# EAGLE library part AS-ITM-00156 (library tinycircuits)
IC CURRENT MONITOR 1% SOT23-8
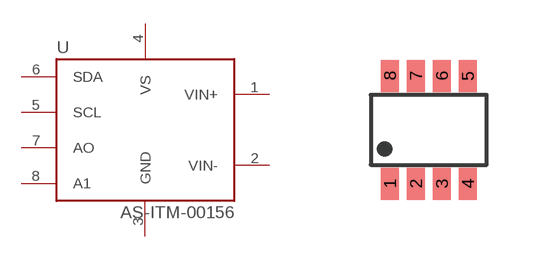
[diagram p70: symbol with the pads of R-PDSO-G8; footprint R-PDSO-G8]

Designator prefix U

## AS-ITM-00156 (PARTNO: AS-ITM-00156; VALUE: INA219AIDCNT)  [R-PDSO-G8]
1  VIN+
2  VIN-
3  GND
4  VS
5  SCL
6  SDA
7  AO
8  A1

## Footprint R-PDSO-G8 (pad centres in mm)
smd 0.45 x 0.8: 1 -0.92,-1.27; 2 -0.27,-1.27; 3 0.38,-1.27; 4 1.03,-1.27; 5 1.03,1.43; 6 0.38,1.43; 7 -0.27,1.43; 8 -0.92,1.43